# Altium schematic symbol library Regulator_Switching.SchLib: 64 symbols
Pins are listed as number, name and electrical type; pins without a type are passive.

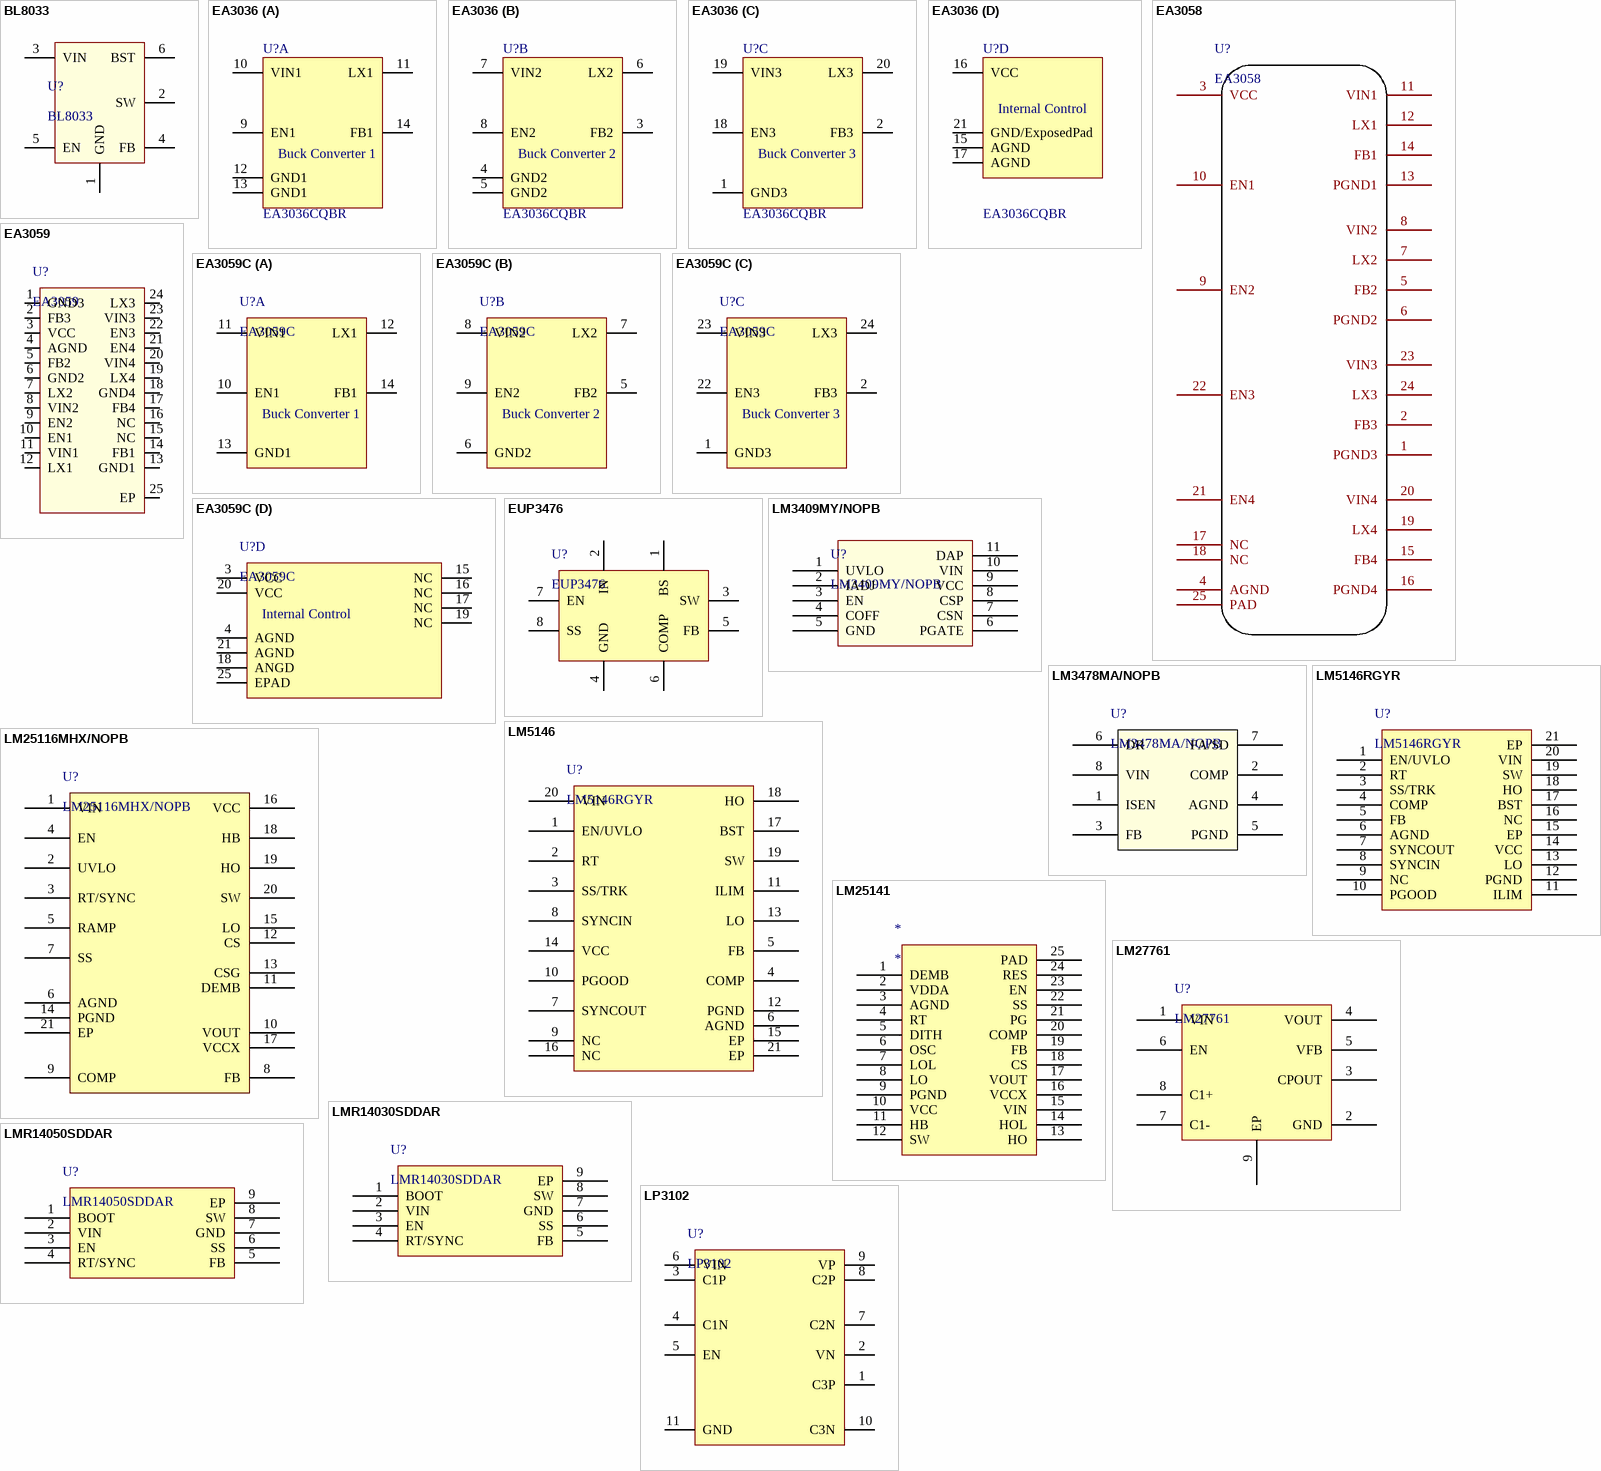
[diagram p0: symbols BL8033 to LP3102]

## BL8033
designator U?
500KHz, 16V, 3A Synchronous Step-Down Converter
footprint SOT-23-6 (SOT23, 6-Leads, Body 2.90x2.80mm, Pitch 0.95mm, IPC Medium Density)
pins: 1 GND, 2 SW, 3 VIN, 4 FB, 5 EN, 6 BST

## EA3036
designator U?, comment EA3036CQBR
EA3036 is a 3CH power management IC for applications powered by one Li-Ion battery or a DC 5V adapter.
footprint QFN-20-1EP_3x3mm_P0.4mm_EP1.6x1.6mm (QFN, 20-Leads, Body 3.00x3.00mm, Pitch 0.40mm, Thermal Pad 1.60x1.60mm, IPC Medium Density)
part A pins: 9 EN1 "CH1 turns on/turns off control input. Don’t leave this pin floating.", 10 VIN1 (power) "Power input pin of CH1. Recommended to use a 10uF MLCC capacitor between VIN1 pin and GND1 pin.", 11 LX1 "Internal MOSFET switching output of CH1. Connect LX1 pin with a low pass filter circuit to obtain a stable DC output voltage.", 12 GND1 (power) "Power ground pin of CH1.", 13 GND1 (power) "Power ground pin of CH1.", 14 FB1 "Feedback input of CH1. Connect to output voltage with a resistor divider."
part B pins: 3 FB2 "Feedback input of CH2. Connect to output voltage with a resistor divider.", 4 GND2 (power) "Power ground pin of CH2.", 5 GND2 (power) "Power ground pin of CH2.", 6 LX2 "Internal MOSFET switching output of CH2. Connect LX2 pin with a low pass filter circuit to obtain a stable DC output voltage.", 7 VIN2 (power) "Power input pin of CH2. Recommended to use a 10uF MLCC capacitor between VIN2 pin and GND2 pin.", 8 EN2 "CH2 turns on/turns off control input. Don’t leave this pin floating."
part C pins: 1 GND3 (power) "Power ground pin of CH3.", 2 FB3 "Feedback input of CH3. Connect to output voltage with a resistor divider.", 18 EN3 "CH3 turns on/turns off control input. Don’t leave this pin floating.", 19 VIN3 (power) "Power input pin of CH3. Recommended to use a 10uF MLCC capacitor between VIN3 pin and GND3 pin.", 20 LX3 "Internal MOSFET switching output of CH3. Connect SW3 pin with a low pass filter circuit to obtain a stable DC output voltage."
part D pins: 15 AGND (power) "Analog ground pin.", 16 VCC (power) "Input supply pin for internal control circuit.", 17 AGND (power) "Analog ground pin.", 21 GND/ExposedPad (power) "The Exposed Pad must be soldered to a large PCB copper plane and connected to GND for appropriate dissipation."
part A text: Buck Converter 1
part B text: Buck Converter 2
part C text: Buck Converter 3
part D text: Internal Control

## EA3058
designator U?
4-CH Power Management IC  2A
footprint QFN-24_L4.0-W4.0-P0.50-BL-EP2.6
pins: 1 PGND3, 2 FB3, 3 VCC, 4 AGND, 5 FB2, 6 PGND2, 7 LX2, 8 VIN2, 9 EN2, 10 EN1, 11 VIN1, 12 LX1, 13 PGND1, 14 FB1, 15 FB4, 16 PGND4, 17 NC, 18 NC, 19 LX4, 20 VIN4, 21 EN4, 22 EN3, 23 VIN3, 24 LX3, 25 PAD

## EA3059
designator U?
4 路PMU, 输入电压2.7V~5.5V，输出电压 0.6V~Vin 输出电流：2A/2A/2A/2A
footprint QFN-24-1EP_4X4mm_P0.6mm_EP2.6x2.6MM (QFN, 24-Leads, Body 4.00x4.00mm, Pitch 0.50mm, Thermal Pad 2.60x2.60mm, IPC Medium Density)
pins: 1 GND3, 2 FB3, 3 VCC, 4 AGND, 5 FB2, 6 GND2, 7 LX2, 8 VIN2, 9 EN2, 10 EN1, 11 VIN1, 12 LX1, 13 GND1, 14 FB1, 15 NC, 16 NC, 17 FB4, 18 GND4, 19 LX4, 20 VIN4, 21 EN4, 22 EN3, 23 VIN3, 24 LX3, 25 EP

## EA3059C
designator U?
3路PMU, 输入电压2.7V~5.5V，输出电压 0.6V~Vin 输出电流3A/2A/2A
footprint QFN-24-1EP_4X4mm_P0.6mm_EP2.6x2.6MM (QFN, 24-Leads, Body 4.00x4.00mm, Pitch 0.50mm, Thermal Pad 2.60x2.60mm, IPC Medium Density)
part A pins: 10 EN1 "CH1 turns on/turns off control input. Don’t leave this pin floating.", 11 VIN1 (power) "Power input pin of CH1. Recommended to use a 10uF MLCC capacitor between VIN1 pin and GND1 pin.", 12 LX1 "Internal MOSFET switching output of CH1. Connect LX1 pin with a low pass filter circuit to obtain a stable DC output voltage.", 13 GND1 (power) "Power ground pin of CH1.", 14 FB1 "Feedback input of CH1. Connect to output voltage with a resistor divider."
part B pins: 5 FB2 "Feedback input of CH2. Connect to output voltage with a resistor divider.", 6 GND2 (power) "Power ground pin of CH2.", 7 LX2 "Internal MOSFET switching output of CH2. Connect LX2 pin with a low pass filter circuit to obtain a stable DC output voltage.", 8 VIN2 (power) "Power input pin of CH2. Recommended to use a 10uF MLCC capacitor between VIN2 pin and GND2 pin.", 9 EN2 "CH2 turns on/turns off control input. Don’t leave this pin floating."
part C pins: 1 GND3 (power) "Power ground pin of CH3.", 2 FB3 "Feedback input of CH3. Connect to output voltage with a resistor divider.", 22 EN3 "CH3 turns on/turns off control input. Don’t leave this pin floating.", 23 VIN3 (power) "Power input pin of CH3. Recommended to use a 10uF MLCC capacitor between VIN3 pin and GND3 pin.", 24 LX3 "Internal MOSFET switching output of CH3. Connect SW3 pin with a low pass filter circuit to obtain a stable DC output voltage."
part D pins: 3 VCC (power) "Input supply pin for internal control circuit.", 4 AGND, 15 NC, 16 NC, 17 NC, 18 ANGD, 19 NC, 20 VCC (power) "Input supply pin for internal control circuit.", 21 AGND, 25 EPAD
part A text: Buck Converter 1
part B text: Buck Converter 2
part C text: Buck Converter 3
part D text: Internal Control

## EUP3476
designator U?
3A, 28V, 500kHz Synchronous Step-Down Converter
footprint SO-8_3.9x4.9mm_P1.27mm (SOIC, 8-Leads, Body 4.9x3.90mm, Pitch 1.27mm, IPC Medium Density)
pins: 1 BS, 2 IN, 3 SW, 4 GND, 5 FB, 6 COMP, 7 EN, 8 SS

## LM3409MY/NOPB
designator U?
P-FET Buck Controller for High-Power LED Drivers
footprint HVSSOP-10_L3.0-W3.0-P0.50-LS4.9-BL-EP
pins: 1 UVLO, 2 IADJ, 3 EN, 4 COFF, 5 GND, 6 PGATE, 7 CSN, 8 CSP, 9 VCC, 10 VIN, 11 DAP

## LM3478MA/NOPB
designator U?
High Efficiency Low-Side N-Channel Controller for Switching Regulator; Manufacturer: Texas Instruments; basePN: LM3478; NSC_PackageReference: M08A; DatasheetURL: http://www.ti.com/lit/ds/symlink/lm3478.pdf; Manufacturer_Part_Number: LM3478MA/NOPB; Vendor: Texas Instruments; Copyright: Copyright (C) 2021 Accelerated Designs. All rights reserved; RefDes: RefDes; Type: DEV
footprint SO-8_3.9x4.9mm_P1.27mm (SOIC, 8-Leads, Body 4.9x3.90mm, Pitch 1.27mm, IPC Medium Density)
pins: 1 ISEN, 2 COMP, 3 FB, 4 AGND (power), 5 PGND (power), 6 DR, 7 FA/SD, 8 VIN

## LM5146
designator U?, comment LM5146RGYR
LM5146 100-V Synchronous Buck DC/DC Controller With Wide Duty Cycle Range
footprint VQFN-20_L4.5-W3.5-P0.50-BL-EP
pins: 1 EN/UVLO, 2 RT, 3 SS/TRK, 4 COMP, 5 FB, 6 AGND, 7 SYNCOUT, 8 SYNCIN, 9 NC, 10 PGOOD, 11 ILIM, 12 PGND, 13 LO, 14 VCC, 15 EP, 16 NC, 17 BST, 18 HO, 19 SW, 20 VIN, 21 EP

## LM5146RGYR
designator U?
LM5146 100-V Synchronous Buck DC/DC Controller With Wide Duty Cycle Range
footprint VQFN-20_L4.5-W3.5-P0.50-BL-EP
pins: 1 EN/UVLO, 2 RT, 3 SS/TRK, 4 COMP, 5 FB, 6 AGND, 7 SYNCOUT, 8 SYNCIN, 9 NC, 10 PGOOD, 11 ILIM, 12 PGND, 13 LO, 14 VCC, 15 EP, 16 NC, 17 BST, 18 HO, 19 SW, 20 VIN, 21 EP

## LM25116MHX/NOPB
designator U?
LM25116 Wide-Range Synchronous Buck Controller
footprint SSOP-20-1EP_6.50x4.4mm_P0.65_EP3x4.2mm (TSOP, 20-Leads, Body 6.50x4.40mm, Pitch 0.65mm, IPC Medium Density)
pins: 1 VIN, 2 UVLO, 3 RT/SYNC, 4 EN, 5 RAMP, 6 AGND, 7 SS, 8 FB, 9 COMP, 10 VOUT, 11 DEMB, 12 CS, 13 CSG, 14 PGND, 15 LO, 16 VCC, 17 VCCX, 18 HB, 19 HO, 20 SW, 21 EP

## LM25141
designator *
footprint VQFN-24_L4.0-W4.0-P0.50-BL-EP2.5
pins: 1 DEMB, 2 VDDA, 3 AGND, 4 RT, 5 DITH, 6 OSC, 7 LOL, 8 LO, 9 PGND, 10 VCC, 11 HB, 12 SW, 13 HO, 14 HOL, 15 VIN, 16 VCCX, 17 VOUT, 18 CS, 19 FB, 20 COMP, 21 PG, 22 SS, 23 EN, 24 RES, 25 PAD

## LM27761
designator U?
LM27761 低噪声稳压开关电容器电压逆变器
footprint WSON-8-1EP_2x2mm_P0.5mm_EP0.9x1.6mm (QFN, 8-Leads, Body 2.00x2.00mm, Pitch 0.50mm, Thermal Pad 0.90x1.60mm, IPC Medium Density)
pins: 1 VIN, 2 GND, 3 CPOUT, 4 VOUT, 5 VFB, 6 EN, 7 C1-, 8 C1+, 9 EP

## LMR14030SDDAR
designator U?
LMR14030 具有 40uA IQ 的 SIMPLE SWITCHER®、40V、3.5A 2.2MHz 降压转换器
footprint SO-8_1EP_3.9x4.9mm_P1.27mm_EP2x3mm (SOIC, 8-Leads, Body 4.9x3.90mm, Pitch 1.27mm, IPC Medium Density)
pins: 1 BOOT, 2 VIN, 3 EN, 4 RT/SYNC, 5 FB, 6 SS, 7 GND, 8 SW, 9 EP

## LMR14050SDDAR
designator U?
LMR14050 具有 40uA IQ 的 SIMPLE SWITCHER®、40V、5A 2.2MHz 降压转换器
footprint SO-8_1EP_3.9x4.9mm_P1.27mm_EP2x3mm (SOIC, 8-Leads, Body 4.9x3.90mm, Pitch 1.27mm, IPC Medium Density)
pins: 1 BOOT, 2 VIN, 3 EN, 4 RT/SYNC, 5 FB, 6 SS, 7 GND, 8 SW, 9 EP

## LP3102
designator U?
Dual Channel Charge Pump Power Solution For TFT LCD Panel
footprint TDFN-10-1EP_3X3mm_P0.5mm_EP2.5x1.55mm (SON, 10-Leads, Body 3.00x3.00mm, Pitch 0.50mm, Thermal Pad 2.50x1.55mm, IPC Medium Density)
pins: 1 C3P, 2 VN, 3 C1P, 4 C1N, 5 EN, 6 VIN, 7 C2N, 8 C2P, 9 VP, 10 C3N, 11 GND

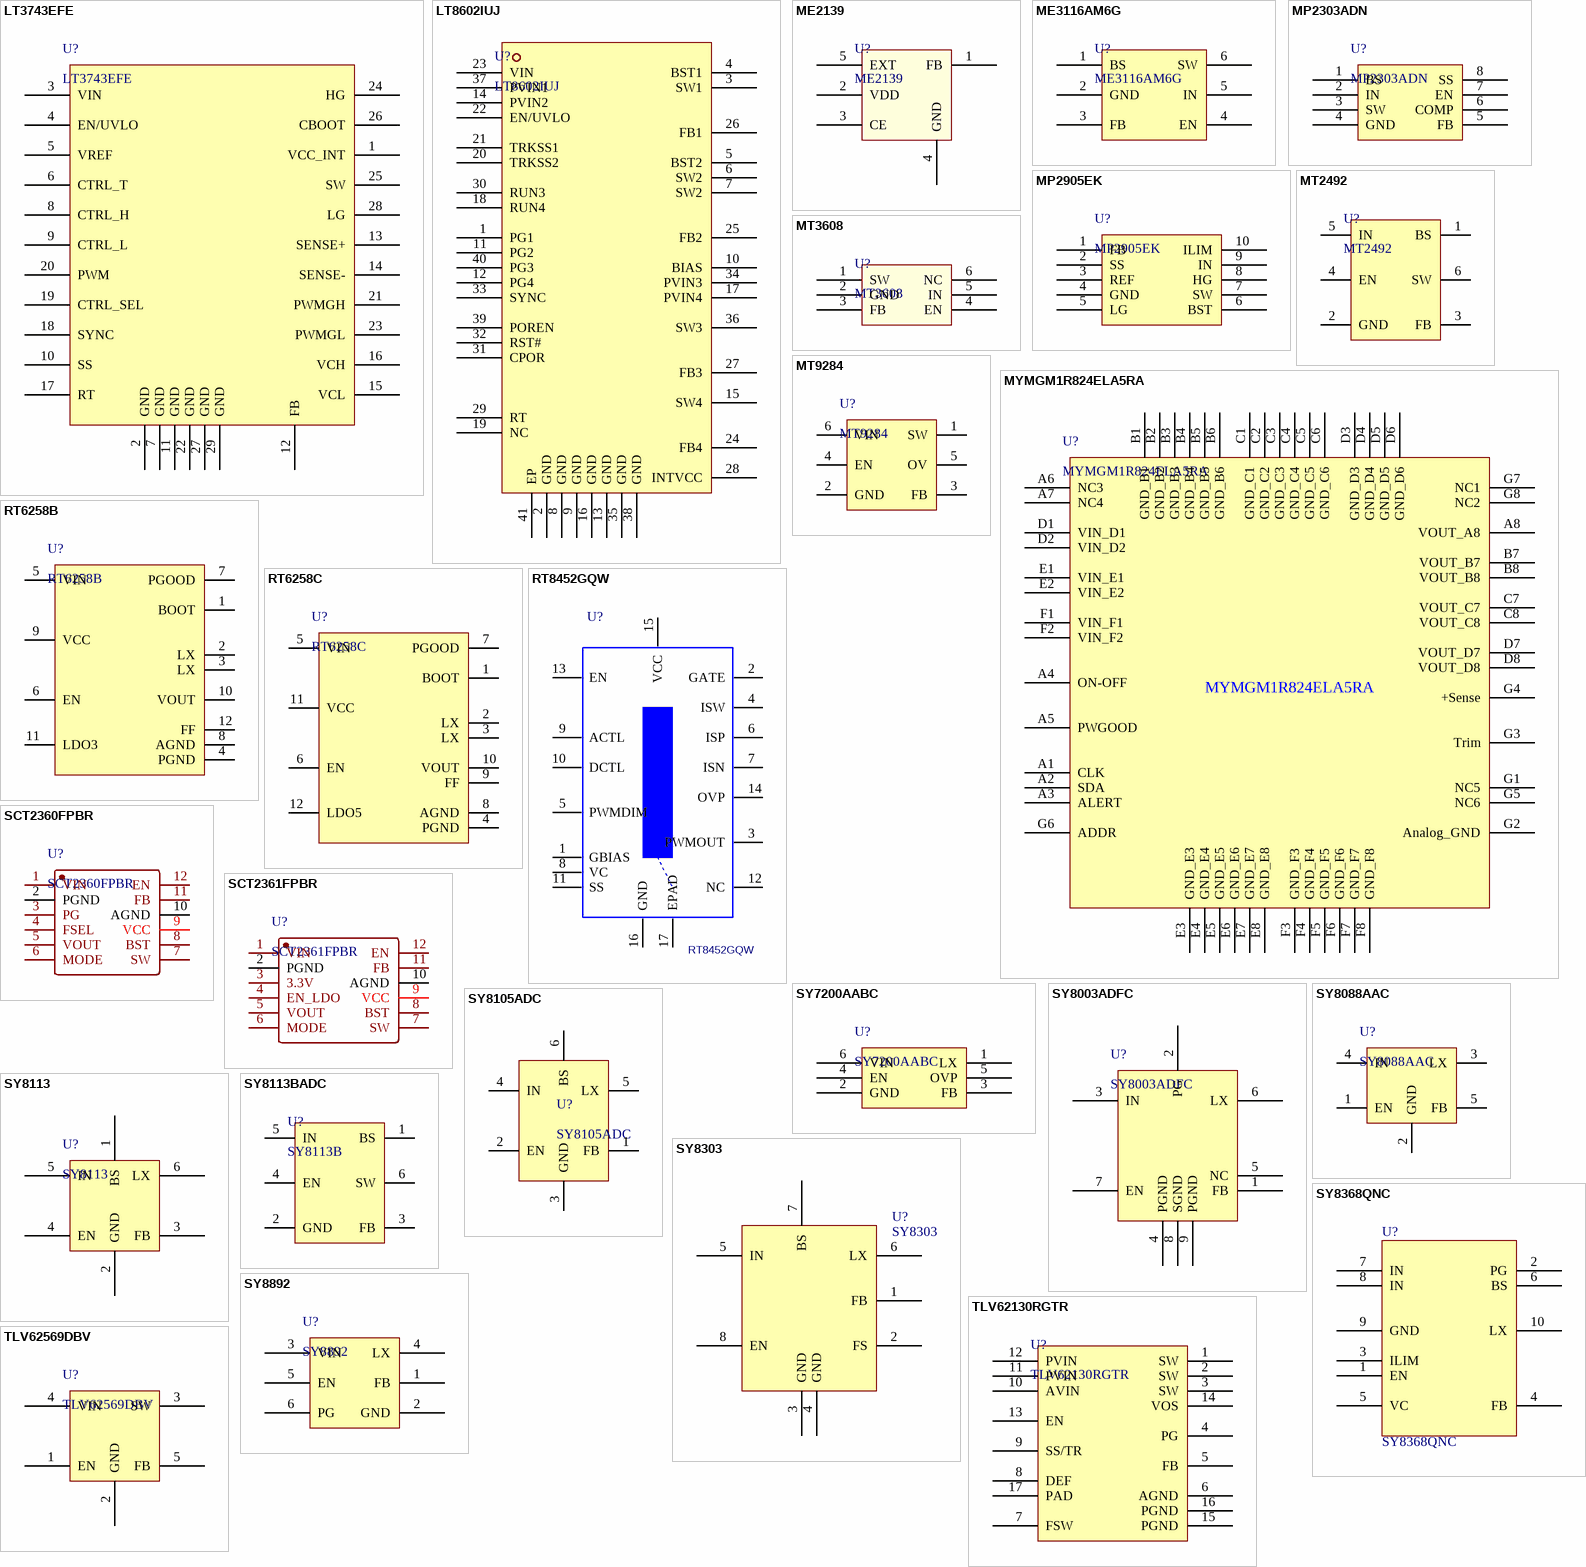
[diagram p1: symbols LT3743EFE to TLV62569DBV]

## LT3743EFE
designator U?
High Current Synchronous Step-Down LED Driver with Three-State Control
footprint TSOP-28_9.7x4.4mm_P0.65_EP_2.74x4.75mm (TSOP, 28-Leads, Body 9.70x4.40mm, Pitch 0.65mm, IPC Medium Density)
pins: 1 VCC_INT, 2 GND, 3 VIN, 4 EN/UVLO, 5 VREF, 6 CTRL_T, 7 GND, 8 CTRL_H, 9 CTRL_L, 10 SS, 11 GND, 12 FB, 13 SENSE+, 14 SENSE-, 15 VCL, 16 VCH, 17 RT, 18 SYNC, 19 CTRL_SEL, 20 PWM, 21 PWMGH, 22 GND, 23 PWMGL, 24 HG, 25 SW, 26 CBOOT, 27 GND, 28 LG, 29 GND

## LT8602IUJ
designator U?
42V Quad Monolithic Synchronous Step-Down Regulator
footprint QFN-40-1EP_6x6mm_P0.5mm-EP4.5x4.5mm
pins: 1 PG1, 2 GND, 3 SW1, 4 BST1, 5 BST2, 6 SW2, 7 SW2, 8 GND, 9 GND, 10 BIAS, 11 PG2, 12 PG4, 13 GND, 14 PVIN2, 15 SW4, 16 GND, 17 PVIN4, 18 RUN4, 19 NC, 20 TRKSS2, 21 TRKSS1, 22 EN/UVLO, 23 VIN, 24 FB4, 25 FB2, 26 FB1, 27 FB3, 28 INTVCC, 29 RT, 30 RUN3, 31 CPOR, 32 RST#, 33 SYNC, 34 PVIN3, 35 GND, 36 SW3, 37 PVIN1, 38 GND, 39 POREN, 40 PG3, 41 EP

## ME2139
designator U?
ULTRA-SMALL PACKAGE PWM/PFM SWITCHING CONTROL STEP-UP SWITCHING REGULATOR
footprint SOT-23-5 (SOT23, 5-Leads, Body 2.90x2.45mm, Pitch 0.95mm, IPC Medium Density)
pins: 1 FB, 2 VDD, 3 CE, 4 GND, 5 EXT

## ME3116AM6G
designator U?
最高输入 40V 带载可达 1A 的 DC/DC 异步降压型稳压器 ME3116
footprint SOT-23-6 (SOT23, 6-Leads, Body 2.90x2.80mm, Pitch 0.95mm, IPC Medium Density)
pins: 1 BS, 2 GND, 3 FB, 4 EN, 5 IN, 6 SW

## MP2303ADN
designator U?
footprint SO-8_3.9x4.9mm_P1.27mm (SOIC, 8-Leads, Body 4.9x3.90mm, Pitch 1.27mm, IPC Medium Density)
pins: 1 BS, 2 IN, 3 SW, 4 GND, 5 FB, 6 COMP, 7 EN, 8 SS

## MP2905EK
designator U?
3V-28V Input, Hysteretic Synchronous Step-Down Controller
footprint MSOP-10_L3.0-W3.0-P0.50-LS5.0-BL
pins: 1 FB, 2 SS, 3 REF, 4 GND, 5 LG, 6 BST, 7 SW, 8 HG, 9 IN, 10 ILIM

## MT2492
designator U?
600KHz, 16V，2A Synchronous Step-Down Converter
footprint SOT-23-6 (SOT23, 6-Leads, Body 2.90x2.80mm, Pitch 0.95mm, IPC Medium Density)
pins: 1 BS, 2 GND, 3 FB, 4 EN, 5 IN, 6 SW

## MT3608
designator U?
High Efficiency 1.2MHz 2A Step Up Converter
footprint SOT-23-6 (SOT23, 6-Leads, Body 2.90x2.80mm, Pitch 0.95mm, IPC Medium Density)
pins: 1 SW, 2 GND, 3 FB, 4 EN, 5 IN, 6 NC

## MT9284
designator U?
1.2MHz, High Efficiency Boost White LED Driver
footprint SOT-23-6 (SOT23, 6-Leads, Body 2.90x2.80mm, Pitch 0.95mm, IPC Medium Density)
pins: 1 SW, 2 GND, 3 FB, 4 EN, 5 OV, 6 VIN

## MYMGM1R824ELA5RA
designator U?
Mono Block Type POL 24A DC-DC Converter Series
footprint MYMGM1R824ELA5RA
pins: A1 CLK, A2 SDA, A3 ALERT, A4 ON-OFF, A5 PWGOOD, A6 NC3, A7 NC4, A8 VOUT_A8, B1 GND_B1, B2 GND_B2, B3 GND_B3, B4 GND_B4, B5 GND_B5, B6 GND_B6, B7 VOUT_B7, B8 VOUT_B8, C1 GND_C1, C2 GND_C2, C3 GND_C3, C4 GND_C4, C5 GND_C5, C6 GND_C6, C7 VOUT_C7, C8 VOUT_C8, D1 VIN_D1, D2 VIN_D2, D3 GND_D3, D4 GND_D4, D5 GND_D5, D6 GND_D6, D7 VOUT_D7, D8 VOUT_D8, E1 VIN_E1, E2 VIN_E2, E3 GND_E3, E4 GND_E4, E5 GND_E5, E6 GND_E6, E7 GND_E7, E8 GND_E8, F1 VIN_F1, F2 VIN_F2, F3 GND_F3, F4 GND_F4, F5 GND_F5, F6 GND_F6, F7 GND_F7, F8 GND_F8, G1 NC5, G2 Analog_GND, G3 Trim, G4 +Sense, G5 NC6, G6 ADDR, G7 NC1, G8 NC2

## RT6258B
designator U?
8A, 23V Synchronous Step-Down Converter with 3.3V LDO
footprint UQFN-12_RT6258B/C
pins: 1 BOOT, 2 LX, 3 LX, 4 PGND, 5 VIN, 6 EN, 7 PGOOD, 8 AGND, 9 VCC, 10 VOUT, 11 LDO3, 12 FF

## RT6258C
designator U?
8A, 23V Synchronous Step-Down Converter with 5V LDO
footprint UQFN-12_RT6258B/C
pins: 1 BOOT, 2 LX, 3 LX, 4 PGND, 5 VIN, 6 EN, 7 PGOOD, 8 AGND, 9 FF, 10 VOUT, 11 VCC, 12 LDO5

## RT8452GQW
designator U?
36Vin,52Vout LED Controllers for Boost or Buck-Boost.; Manufacturer #1: RICHTEK; Current Rating: 20A(MAX); Voltage Rating: 38V.; PCB Footprint: RT8452GQW; Operating Temperature: -40oC to 85oC.; Storage Temperature: -65oC to 150oC.
footprint QFN-16-1EP_3x3mm_P0.5mm_EP1.68x1.68mm (QFN, 16-Leads, Body 3.00x3.00mm, Pitch 0.50mm, Thermal Pad 1.68x1.68mm, IPC High Density)
pins: 1 GBIAS, 2 GATE, 3 PWMOUT, 4 ISW, 5 PWMDIM, 6 ISP, 7 ISN, 8 VC, 9 ACTL, 10 DCTL, 11 SS, 12 NC, 13 EN, 14 OVP, 15 VCC, 16 GND, 17 EPAD
1 alternate drawing of the same symbol

## SCT2360FPBR
designator U?
4V-28V Vin, 6A Synchronous Step-down DCDC Converter
footprint QFN-12_L3.0-W3.0-P0.50-TL_SCT2360FPBR
pins: 1 VIN, 2 PGND, 3 PG, 4 FSEL, 5 VOUT, 6 MODE, 7 SW, 8 BST, 9 VCC, 10 AGND, 11 FB, 12 EN

## SCT2361FPBR
designator U?
4V-28V Vin, 6A Synchronous Step-down DCDC Converter Integrated with a 3.3V and 150mA LDO
footprint QFN-12_L3.0-W3.0-P0.50-TL_SCT2361FPBR
pins: 1 VIN, 2 PGND, 3 3.3V, 4 EN_LDO, 5 VOUT, 6 MODE, 7 SW, 8 BST, 9 VCC, 10 AGND, 11 FB, 12 EN

## SY7200AABC
designator U?
30V 2A LED驱动 升压 效率高达96% 软启动 LED开路保护
footprint SOT-23-6 (SOT23, 6-Leads, Body 2.90x2.80mm, Pitch 0.95mm, IPC Medium Density)
pins: 1 LX, 2 GND, 3 FB, 4 EN, 5 OVP, 6 VIN

## SY8003ADFC
designator U?
5.5V, 3A continuous, 1MHz Synchronous Step Down Regulator
footprint DFN-8-1EP_2x2mm_P0.5mm_EP0.9x1.7mm (SON, 8-Leads, Body 2.00x2.00mm, Pitch 0.50mm, Thermal Pad 1.55x0.78mm, IPC Medium Density)
pins: 1 FB, 2 PG, 3 IN, 4 PGND, 5 NC, 6 LX, 7 EN, 8 SGND, 9 PGND

## SY8088AAC
designator U?
High Efficiency 1.5MHz, 1A Synchronous Step Down Regulator
footprint SOT-23-5 (SOT23, 5-Leads, Body 2.90x2.45mm, Pitch 0.95mm, IPC Medium Density)
pins: 1 EN, 2 GND, 3 LX, 4 IN, 5 FB

## SY8105ADC
designator U?
High Efficiency, 500kHz, 5A, 18V Input Synchronous Step Down Regulator
footprint SOT-23-6 (SOT23, 6-Leads, Body 2.90x2.80mm, Pitch 0.95mm, IPC Medium Density)
pins: 1 FB, 2 EN, 3 GND, 4 IN, 5 LX, 6 BS

## SY8113
designator U?
High Efficiency, 500kHz, 3A, 18V Input Synchronous Step Down Regulator
footprint SOT-23-6 (SOT23, 6-Leads, Body 2.90x2.80mm, Pitch 0.95mm, IPC Medium Density)
pins: 1 BS, 2 GND, 3 FB, 4 EN, 5 IN, 6 LX

## SY8113BADC
designator U?, comment SY8113B
High Efficiency, 500kHz, 3A, 18V Input Synchronous Step Down Regulator
footprint SOT-23-6 (SOT23, 6-Leads, Body 2.90x2.80mm, Pitch 0.95mm, IPC Medium Density)
pins: 1 BS, 2 GND, 3 FB, 4 EN, 5 IN, 6 SW

## SY8303
designator U?
SY8303 3A DCDC 40V max; input voltage: 4.5V ~ 40v
footprint TSOT23-8
pins: 1 FB, 2 FS, 3 GND, 4 GND, 5 IN, 6 LX, 7 BS, 8 EN

## SY8368QNC
designator U?
8A BUCK
footprint SY8368_QFN30X30-10
pins: 1 EN, 2 PG, 3 ILIM, 4 FB, 5 VC, 6 BS, 7 IN, 8 IN, 9 GND, 10 LX

## SY8892
designator U?
2A Synchronous Step Down Regulator
footprint SOT-563 (SOTFL, 6-Leads, Body 1.70x1.70mm, Pitch 0.50mm, IPC Medium Density)
pins: 1 FB, 2 GND, 3 VIN, 4 LX, 5 EN, 6 PG

## TLV62130RGTR
designator U?
TLV62130x 3V 至 17V 3A 降压转换器
footprint QFN-16-1EP_3x3mm_P0.5mm_EP1.68x1.68mm (QFN, 16-Leads, Body 3.00x3.00mm, Pitch 0.50mm, Thermal Pad 1.68x1.68mm, IPC High Density)
footprint QFN-16-1EP_3x3mm_P0.5mm_EP1.68x1.68mm_THERMAL (QFN, 16-Leads, Body 3.00x3.00mm, Pitch 0.50mm, Thermal Pad 1.68x1.68mm, IPC High Density)
pins: 1 SW, 2 SW, 3 SW, 4 PG, 5 FB, 6 AGND, 7 FSW, 8 DEF, 9 SS/TR, 10 AVIN, 11 PVIN, 12 PVIN, 13 EN, 14 VOS, 15 PGND, 16 PGND, 17 PAD

## TLV62569DBV
designator U?
High Efficiency Synchronous Buck Converter, Adjustable Output 0.6V-5.5V, 2A, SOT package
footprint SOT-23-5 (SOT23, 5-Leads, Body 2.90x2.45mm, Pitch 0.95mm, IPC Medium Density)
pins: 1 EN, 2 GND, 3 SW, 4 VIN, 5 FB

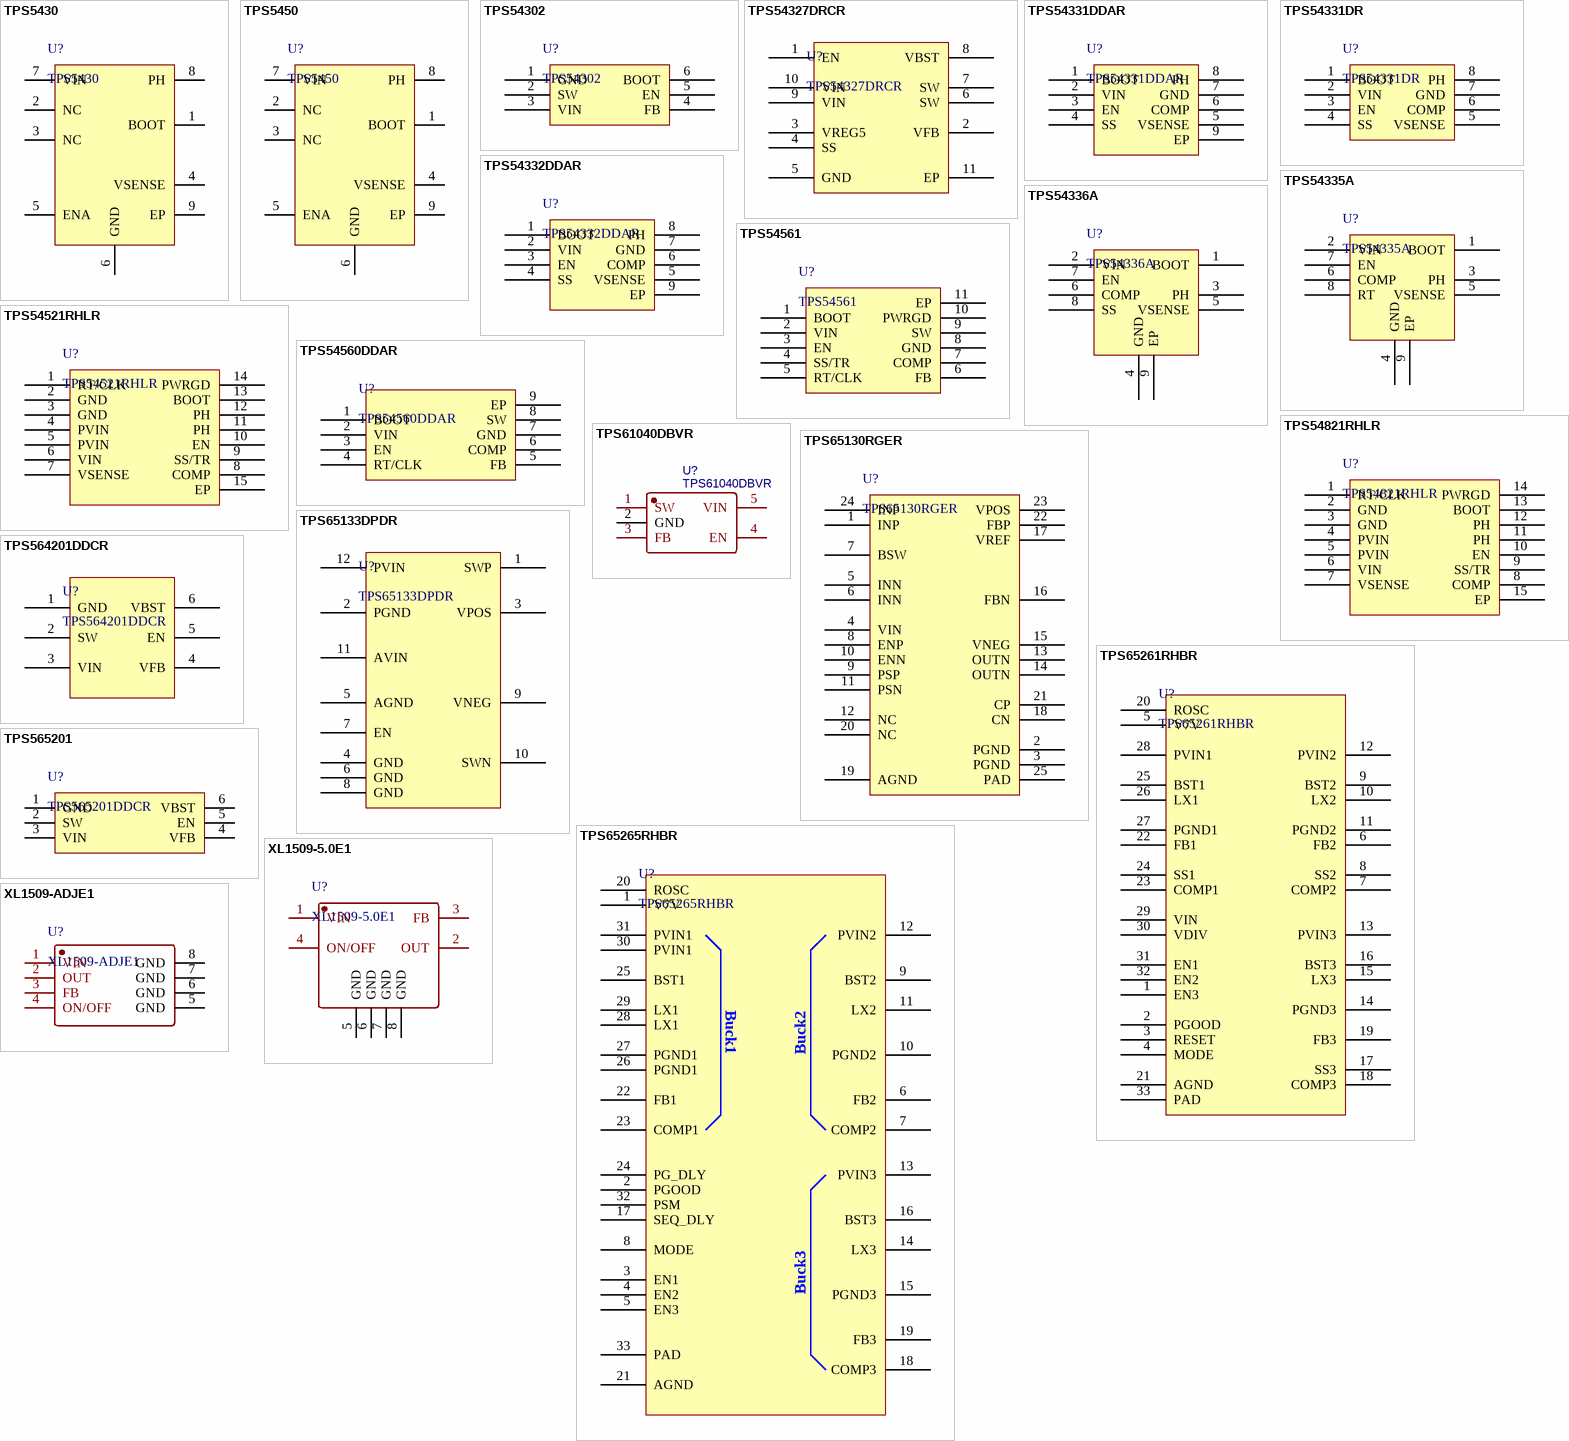
[diagram p2: symbols TPS5430 to XL1509-ADJE1]

## TPS5430
designator U?
TPS543x 3-A, Wide Input Range, Step-Down Converter
footprint SO-8_1EP_3.9x4.9mm_P1.27mm_EP2x3mm (SOIC, 8-Leads, Body 4.9x3.90mm, Pitch 1.27mm, IPC Medium Density)
pins: 1 BOOT, 2 NC, 3 NC, 4 VSENSE, 5 ENA, 6 GND, 7 VIN, 8 PH, 9 EP

## TPS5450
designator U?
TPS545x 5-A, Wide Input Range, Step-Down Converter
footprint SO-8_1EP_3.9x4.9mm_P1.27mm_EP2x3mm (SOIC, 8-Leads, Body 4.9x3.90mm, Pitch 1.27mm, IPC Medium Density)
pins: 1 BOOT, 2 NC, 3 NC, 4 VSENSE, 5 ENA, 6 GND, 7 VIN, 8 PH, 9 EP

## TPS54302
designator U?
4.5V 至 28V 输入、3A 输出、EMI 友好型同步降压转换器
footprint SOT-23-6 (SOT23, 6-Leads, Body 2.90x2.80mm, Pitch 0.95mm, IPC Medium Density)
pins: 1 GND, 2 SW, 3 VIN, 4 FB, 5 EN, 6 BOOT

## TPS54327DRCR
designator U?
3A TPS54327 4.5V 至 18V 输入，3A 同步降压 SWIFT™ 转换器
footprint VSON-10_L3.0-W3.0-P0.50-TL-EP
pins: 1 EN, 2 VFB, 3 VREG5, 4 SS, 5 GND, 6 SW, 7 SW, 8 VBST, 9 VIN, 10 VIN, 11 EP

## TPS54331DDAR
designator U?
TPS54331 3-A, 28-V Input, Step Down DC-DC Converter With Eco-mode™
footprint SO-8_1EP_3.9x4.9mm_P1.27mm_EP2x3mm (SOIC, 8-Leads, Body 4.9x3.90mm, Pitch 1.27mm, IPC Medium Density)
pins: 1 BOOT, 2 VIN, 3 EN, 4 SS, 5 VSENSE, 6 COMP, 7 GND, 8 PH, 9 EP

## TPS54331DR
designator U?
TPS54331 3-A, 28-V Input, Step Down DC-DC Converter With Eco-mode™
footprint SO-8_3.9x4.9mm_P1.27mm (SOIC, 8-Leads, Body 4.9x3.90mm, Pitch 1.27mm, IPC Medium Density)
pins: 1 BOOT, 2 VIN, 3 EN, 4 SS, 5 VSENSE, 6 COMP, 7 GND, 8 PH

## TPS54332DDAR
designator U?
TPS54332 3.5-A, 28-V Input, Step Down DC-DC Converter With Eco-mode™
footprint SO-8_1EP_3.9x4.9mm_P1.27mm_EP2x3mm (SOIC, 8-Leads, Body 4.9x3.90mm, Pitch 1.27mm, IPC Medium Density)
pins: 1 BOOT, 2 VIN, 3 EN, 4 SS, 5 VSENSE, 6 COMP, 7 GND, 8 PH, 9 EP

## TPS54335A
designator U?
TPS54335A 4.5V 至 28V 输入、3A 输出、同步降压 DC-DC 转换器
footprint SO-8_1EP_3.9x4.9mm_P1.27mm_EP2x3mm (SOIC, 8-Leads, Body 4.9x3.90mm, Pitch 1.27mm, IPC Medium Density)
pins: 1 BOOT, 2 VIN, 3 PH, 4 GND, 5 VSENSE, 6 COMP, 7 EN, 8 RT, 9 EP

## TPS54336A
designator U?
TPS54336A 4.5V 至 28V 输入、3A 输出、同步降压 DC-DC 转换器
footprint SO-8_1EP_3.9x4.9mm_P1.27mm_EP2x3mm (SOIC, 8-Leads, Body 4.9x3.90mm, Pitch 1.27mm, IPC Medium Density)
pins: 1 BOOT, 2 VIN, 3 PH, 4 GND, 5 VSENSE, 6 COMP, 7 EN, 8 SS, 9 EP

## TPS54521RHLR
designator U?
支持断续模式的 4.5V 至 17 V 输入、5A 同步降压 SWIFT转换器
footprint VQFN_14-1EP_3.6x3.6mm_P0.5mm_EP2.05x2.05mm (QFN, 20-Leads, Body 3.50x3.50mm, Pitch 0.50mm, Thermal Pad 2.05x2.00mm, IPC Medium Density)
pins: 1 RT/CLK, 2 GND, 3 GND, 4 PVIN, 5 PVIN, 6 VIN, 7 VSENSE, 8 COMP, 9 SS/TR, 10 EN, 11 PH, 12 PH, 13 BOOT, 14 PWRGD, 15 EP

## TPS54560DDAR
designator U?
TPS54560DDAR  5-A, 60-V Input, Step Down DC-DC Converter
footprint SO-8_1EP_3.9x4.9mm_P1.27mm_EP2x3mm (SOIC, 8-Leads, Body 4.9x3.90mm, Pitch 1.27mm, IPC Medium Density)
pins: 1 BOOT, 2 VIN, 3 EN, 4 RT/CLK, 5 FB, 6 COMP, 7 GND, 8 SW, 9 EP

## TPS54561
designator U?
4.5V 至 60V 输入、5A 降压直流/直流转换器
footprint WSON-10-1EP_4x4mm_P0.8mm_EP3x2.6mm (SON, 10-Leads, Body 4.00x4.00mm, Pitch 0.80mm, Thermal Pad 3.20x2.58mm, IPC High Density)
pins: 1 BOOT, 2 VIN, 3 EN, 4 SS/TR, 5 RT/CLK, 6 FB, 7 COMP, 8 GND, 9 SW, 10 PWRGD, 11 EP

## TPS54821RHLR
designator U?
支持断续模式的 4.5V 至 17 V 输入、8A 同步降压 SWIFT转换器
footprint VQFN_14-1EP_3.6x3.6mm_P0.5mm_EP2.05x2.05mm (QFN, 20-Leads, Body 3.50x3.50mm, Pitch 0.50mm, Thermal Pad 2.05x2.00mm, IPC Medium Density)
pins: 1 RT/CLK, 2 GND, 3 GND, 4 PVIN, 5 PVIN, 6 VIN, 7 VSENSE, 8 COMP, 9 SS/TR, 10 EN, 11 PH, 12 PH, 13 BOOT, 14 PWRGD, 15 EP

## TPS61040DBVR
designator U?
BOM_Manufacturer: TI; BOM_Supplier: LCSC; BOM_Manufacturer Part: TPS61040DBVR; BOM_Supplier Part: C7722; BOM_JLCPCB Part Class: Basic Part; spicePre: U; spiceSymbolName: TPS61040DBVR
footprint SOT-23-5 (SOT23, 5-Leads, Body 2.90x2.45mm, Pitch 0.95mm, IPC Medium Density)
pins: 1 SW, 2 GND, 3 FB, 4 EN, 5 VIN

## TPS65130RGER
designator U?
TPS65130RGER 0.7A 双路正负输出直流/直流转换器
footprint QFN-24-1EP_4x4_P0.5mm_EP2.45x2.45mm (QFN, 24-Leads, Body 4.00x4.00mm, Pitch 0.50mm, Thermal Pad 2.45x2.45mm, IPC Low Density)
pins: 1 INP, 2 PGND, 3 PGND, 4 VIN, 5 INN, 6 INN, 7 BSW, 8 ENP, 9 PSP, 10 ENN, 11 PSN, 12 NC, 13 OUTN, 14 OUTN, 15 VNEG, 16 FBN, 17 VREF, 18 CN, 19 AGND, 20 NC, 21 CP, 22 FBP, 23 VPOS, 24 INP, 25 PAD

## TPS65133DPDR
designator U?
±5-V, 250-mA Dual-Output Power Supply
footprint WSON-12-1EP_3x3mm-P0.45
pins: 1 SWP, 2 PGND, 3 VPOS, 4 GND, 5 AGND, 6 GND, 7 EN, 8 GND, 9 VNEG, 10 SWN, 11 AVIN, 12 PVIN

## TPS65261RHBR
designator U?
TPS6526x 4.5V 至 18V 输入电压、3A/2A/2A 输出电流、三路同步降压转换器
footprint QFN-32-1EP_5x5MM_P0.5mm_EP3.45x3.45mm (QFN, 32-Leads, Body 5.00x5.00mm, Pitch 0.50mm, Thermal Pad 3.70x3.70mm, IPC Low Density)
pins: 1 EN3, 2 PGOOD, 3 RESET, 4 MODE, 5 V7V, 6 FB2, 7 COMP2, 8 SS2, 9 BST2, 10 LX2, 11 PGND2, 12 PVIN2, 13 PVIN3, 14 PGND3, 15 LX3, 16 BST3, 17 SS3, 18 COMP3, 19 FB3, 20 ROSC, 21 AGND, 22 FB1, 23 COMP1, 24 SS1, 25 BST1, 26 LX1, 27 PGND1, 28 PVIN1, 29 VIN, 30 VDIV, 31 EN1, 32 EN2, 33 PAD

## TPS65265RHBR
designator U?
TPS65265 4.5V 至 17V 输入电压、5A/3A/2A 输出电流三路同步降压转换器
footprint VQFN-32-1EP_5x5mm_P0.5mm_EP3.5x3.5mm (QFN, 32-Leads, Body 5.00x5.00mm, Pitch 0.50mm, Thermal Pad 3.50x3.50mm, IPC Medium Density)
pins: 1 V7V, 2 PGOOD, 3 EN1, 4 EN2, 5 EN3, 6 FB2, 7 COMP2, 8 MODE, 9 BST2, 10 PGND2, 11 LX2, 12 PVIN2, 13 PVIN3, 14 LX3, 15 PGND3, 16 BST3, 17 SEQ_DLY, 18 COMP3, 19 FB3, 20 ROSC, 21 AGND, 22 FB1, 23 COMP1, 24 PG_DLY, 25 BST1, 26 PGND1, 27 PGND1, 28 LX1, 29 LX1, 30 PVIN1, 31 PVIN1, 32 PSM, 33 PAD
text: Buck1; Buck2; Buck3

## TPS564201DDCR
designator U?
TPS564201 采用 SOT-23 封装的 4.5V 至 17V 输入、4A 同步降压稳压器
footprint SOT-23-6 (SOT23, 6-Leads, Body 2.90x2.80mm, Pitch 0.95mm, IPC Medium Density)
pins: 1 GND, 2 SW, 3 VIN, 4 VFB, 5 EN, 6 VBST

## TPS565201
designator U?, comment TPS565201DDCR
TPS565201 4.5-V to 17-V Input, 5-A Synchronous Step-Down Voltage Regulator
footprint SOT-23-6 (SOT23, 6-Leads, Body 2.90x2.80mm, Pitch 0.95mm, IPC Medium Density)
pins: 1 GND, 2 SW, 3 VIN, 4 VFB, 5 EN, 6 VBST

## XL1509-5.0E1
designator U?
5V 2A 150KHz 40V Buck DC to DC Converter
footprint SO-8_3.9x4.9mm_P1.27mm (SOIC, 8-Leads, Body 4.9x3.90mm, Pitch 1.27mm, IPC Medium Density)
pins: 1 VIN, 2 OUT, 3 FB, 4 ON/OFF, 5 GND, 6 GND, 7 GND, 8 GND

## XL1509-ADJE1
designator U?
2A 150KHz 40V Buck DC to DC Converter
footprint SO-8_3.9x4.9mm_P1.27mm (SOIC, 8-Leads, Body 4.9x3.90mm, Pitch 1.27mm, IPC Medium Density)
pins: 1 VIN, 2 OUT, 3 FB, 4 ON/OFF, 5 GND, 6 GND, 7 GND, 8 GND